# Altium footprint library Transistors.PcbLib: 4 footprints
Each footprint in its own frame and in the unit in brackets; x right, y up, seen from the top. Pads: shape width x height; smd on the part's side, far side on the other; paste and mask are expansions set on the pad; w line width, h text height; cw(c..) or ccw(c..) is an arc to the next point about the centre after c.
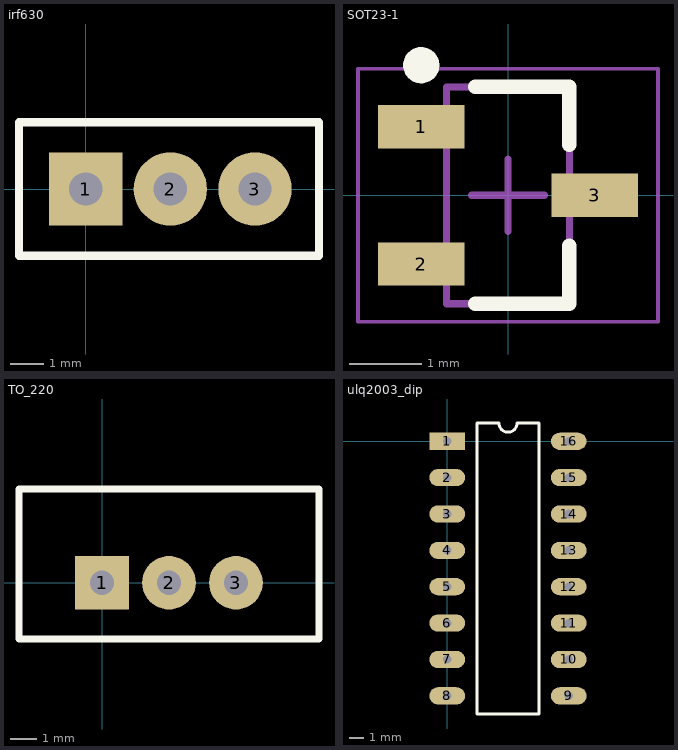
[diagram p0: the footprints below, top view; thin cyan lines are the x and y axes]

## irf630 [mm] "TO-220"
pads (3):
  rect 2.2x2.2 hole 1: 1(0,0)
  round 2.2 hole 1: 2(2.54,0) 3(5.08,0)
Top Overlay:
  lines w0.254: -2,-2 7,-2 7,2 -2,2 -2,-2
3D body "IRF630N MOSFET N-Channel TO-220AB.SLDPRT": height 25.36, standoff -7.52, extent -2.58,-1.505 7.58,2.7

## SOT23-1 [mm] "1-base 2-emitter 3-collector"
height 1.45
pads (3):
  rect 1.2x0.6 smd: 1(-1.2,0.95) 2(-1.2,-0.95) 3(1.2,0)
Top Overlay:
  circle w0.25: c-1.2,1.8 r0.125
  lines w0.2: -0.45,-1.5 0.85,-1.5 0.85,-0.7 ; -0.45,1.5 0.85,1.5 0.85,0.7
Top Assy:
  lines w0.1: -0.85,-1.5 -0.85,1.5 0.85,1.5 0.85,-1.5 -0.85,-1.5
Top ConturComponent:
  lines w0.05: -2.075,-1.75 -2.075,1.75 2.075,1.75 2.075,-1.75 -2.075,-1.75
  lines w0.1: -0.5,0 0.5,0 ; 0,-0.5 0,0.5
3D body "SOT23-1.step": height 1.45, standoff 0, extent -1.4,-1.5 1.4,1.5

## TO_220 [mm]
pads (3):
  rect 2x2 hole 0.9: 1(0,0)
  round 2 hole 0.9: 2(2.5,0) 3(5,0)
Top Overlay:
  lines w0.254: -3.1,-2.1 -3.1,3.5 7.5,3.5 8.1,3.5 8.1,2.5 8.1,0 8.1,-2.1 7.5,-2.1 -3.1,-2.1
3D body: height 11, standoff -3.2, extent 10,-2.5 10,-2.5
3D body "TO-220.SLDPRT": height 20.36, standoff -12.52, extent -2.58,-1.495 7.58,2.7

## ulq2003_dip [mm]
pads (16):
  rect 2.5x1.2 hole 0.6: 1(0,0)
  oval 2.5x1.2 hole 0.6: 2(0,-2.54) 3(0,-5.08) 4(0,-7.62) 5(0,-10.16) 6(0,-12.7) 7(0,-15.24) 8(0,-17.78) 9(8.5,-17.78) 10(8.5,-15.24) 11(8.5,-12.7) 12(8.5,-10.16) 13(8.5,-7.62) 14(8.5,-5.08) 15(8.5,-2.54) 16(8.5,0)
Top Overlay:
  lines w0.2: 2.085,-19.05 6.415,-19.05 6.415,1.27 4.885,1.27 cw(c4.25,1.27) 3.615,1.27 2.085,1.27 2.085,-19.05